# Altium footprint library PCB1.PcbLib: 12 footprints
Each footprint in its own frame and in the unit in brackets; x right, y up, seen from the top. Pads: shape width x height; smd on the part's side, far side on the other; paste and mask are expansions set on the pad; w line width, h text height; cw(c..) or ccw(c..) is an arc to the next point about the centre after c.
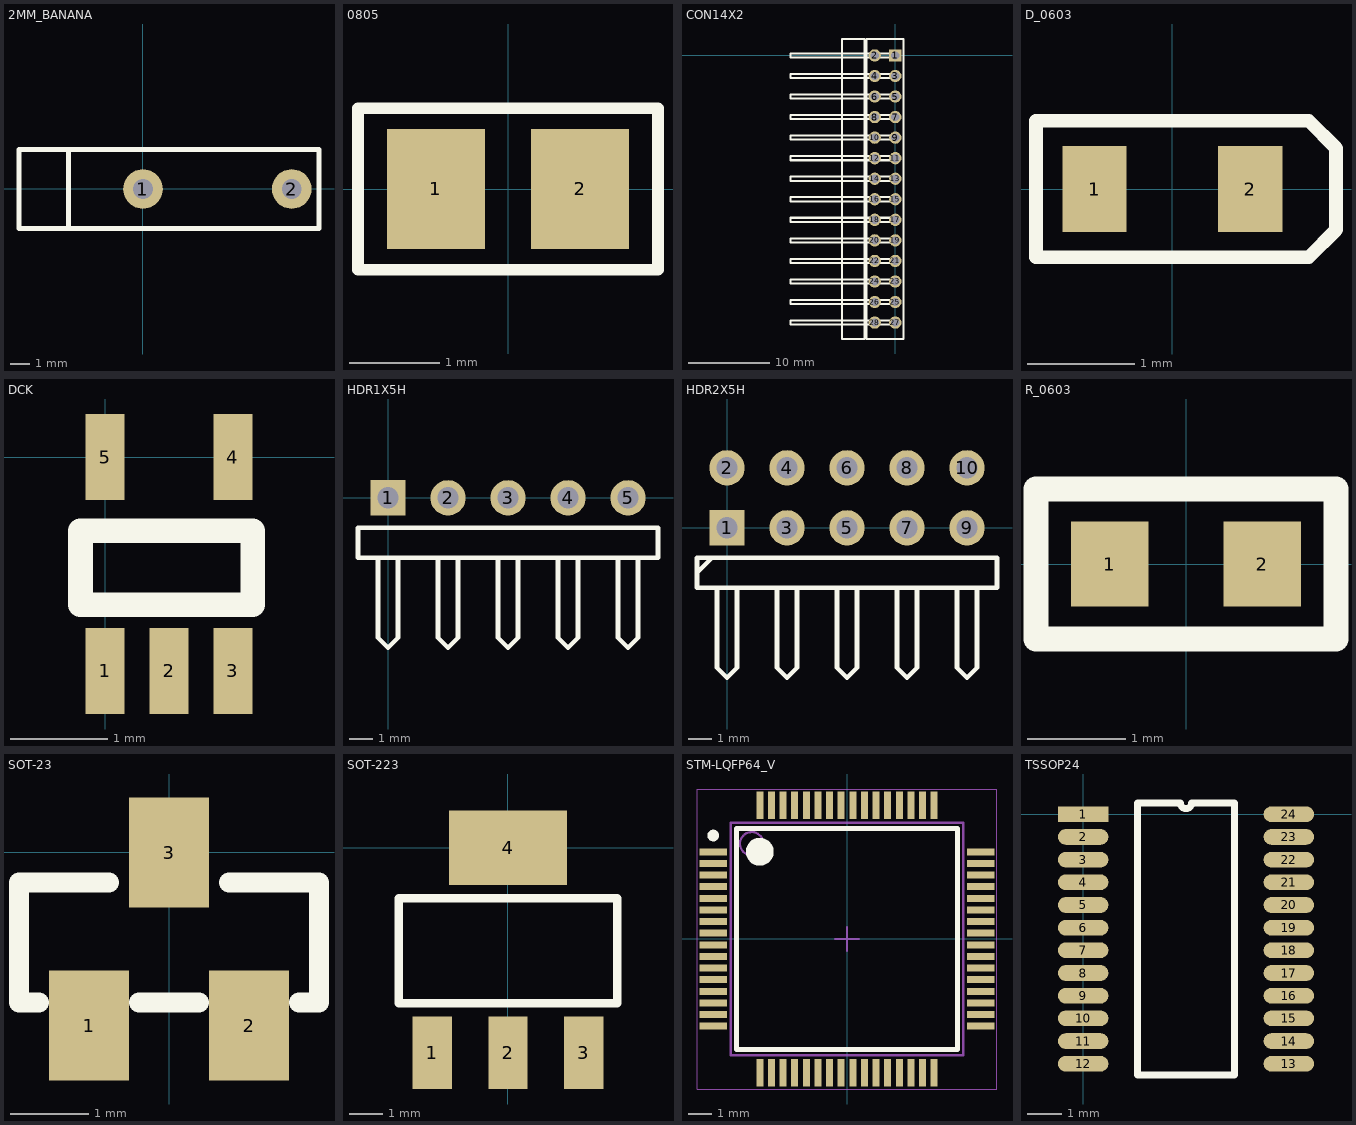
[diagram p0: the footprints below, top view; thin cyan lines are the x and y axes]

## 2MM_BANANA [mil]
pads (2):
  round 80 hole 40: 1(0,0) 2(300,0)
Top Overlay:
  lines w10: -150,-80 -150,80 ; -250,-80 -250,80 355,80 355,-80 -250,-80

## 0805 [mil]
pads (2):
  rect 42.5x52 smd: 1(-31.25,0) 2(31.25,0)
Top Overlay:
  lines w5: -65,-35 -65,35 65,35 65,-35 -65,-35

## CON14X2 [mil]
pads (28):
  rect 60x60 hole 40: 1(0,0)
  round 60 hole 40: 2(-100,0) 3(0,-100) 4(-100,-100) 5(0,-200) 6(-100,-200) 7(0,-300) 8(-100,-300) 9(0,-400) 10(-100,-400) 11(0,-500) 12(-100,-500) 13(0,-600) 14(-100,-600) 15(0,-700) 16(-100,-700) 17(0,-800) 18(-100,-800) 19(0,-900) 20(-100,-900) 21(0,-1000) 22(-100,-1000) 23(0,-1100) 24(-100,-1100) 25(0,-1200) 26(-100,-1200) 27(0,-1300) 28(-100,-1300)
Top Overlay:
  lines w10: 5,-1290 -510,-1290 -510,-1310 15,-1310 ; 5,-1190 -510,-1190 -510,-1210 15,-1210 ; 5,-1090 -510,-1090 -510,-1110 15,-1110 ; 5,-990 -510,-990 -510,-1010 15,-1010 ; 5,-890 -510,-890 -510,-910 15,-910 ; 5,-790 -510,-790 -510,-810 15,-810 ; 5,-690 -510,-690 -510,-710 15,-710 ; 5,-590 -510,-590 -510,-610 15,-610 ; 5,-490 -510,-490 -510,-510 15,-510 ; 5,-390 -510,-390 -510,-410 15,-410 ; 5,-290 -510,-290 -510,-310 15,-310 ; 5,-190 -510,-190 -510,-210 15,-210 ; 5,-90 -510,-90 -510,-110 15,-110 ; 5,10 -510,10 -510,-10 15,-10 ; -260,-1380 -260,80 -150,80 -150,40 -150,-1380 -260,-1380 ; -140,-1380 -140,80 40,80 40,-1380 -140,-1380

## D_0603 [mm]
pads (2):
  rect 0.6x0.8 smd: 1(-0.725,0) 2(0.725,0)
Top Overlay:
  lines w0.127: -1.27,-0.635 1.27,-0.635 1.524,-0.381 1.524,0.381 1.27,0.635 -1.27,0.635 -1.27,-0.635

## DCK [mil]
pads (5):
  rect 16x35 smd: 1(0,-87) 2(26,-87) 3(52,-87) 4(52,0) 5(0,0)
Top Overlay:
  lines w10: -10,-60 -10,-30 60,-30 60,-60 -10,-60

## HDR1X5H [mm]
pads (5):
  rect 1.5x1.5 hole 0.9: 1(0,0)
  round 1.5 hole 0.9: 2(2.54,0) 3(5.08,0) 4(7.62,0) 5(10.16,0)
Top Overlay:
  lines w0.2: -0.423,-2.54 -0.423,-5.927 0,-6.35 0.423,-5.927 0.423,-2.54 ; 2.117,-2.54 2.117,-5.927 2.54,-6.35 2.963,-5.927 2.963,-2.54 ; 4.657,-2.54 4.657,-5.927 5.08,-6.35 5.503,-5.927 5.503,-2.54 ; 7.197,-2.54 7.197,-5.927 7.62,-6.35 8.043,-5.927 8.043,-2.54 ; 9.737,-2.54 9.737,-5.927 10.16,-6.35 10.583,-5.927 10.583,-2.54 ; -1.27,-2.54 11.43,-2.54 11.43,-1.27 -1.27,-1.27 -1.27,-2.54

## HDR2X5H [mm]
pads (10):
  rect 1.5x1.5 hole 0.9: 1(0,0)
  round 1.5 hole 0.9: 2(0,2.54) 3(2.54,0) 4(2.54,2.54) 5(5.08,0) 6(5.08,2.54) 7(7.62,0) 8(7.62,2.54) 9(10.16,0) 10(10.16,2.54)
Top Overlay:
  lines w0.2: -1.27,-1.905 -0.635,-1.27 ; -0.423,-2.54 -0.423,-5.927 0,-6.35 0.423,-5.927 0.423,-2.54 ; 2.117,-2.54 2.117,-5.927 2.54,-6.35 2.963,-5.927 2.963,-2.54 ; 4.657,-2.54 4.657,-5.927 5.08,-6.35 5.503,-5.927 5.503,-2.54 ; 7.197,-2.54 7.197,-5.927 7.62,-6.35 8.043,-5.927 8.043,-2.54 ; 9.737,-2.54 9.737,-5.927 10.16,-6.35 10.583,-5.927 10.583,-2.54 ; -1.27,-2.54 11.43,-2.54 11.43,-1.27 -1.27,-1.27 -1.27,-2.54

## R_0603 [mil]
pads (2):
  rect 31x34 smd: 1(-30.5,0) 2(30.5,0)
Top Overlay:
  lines w10: -60,-30 60,-30 60,30 -60,30 -60,-30

## SOT-23 [mil]
pads (3):
  rect 40x55 smd: 1(-40,-86.5) 2(40,-86.5) 3(0,0)
Top Overlay:
  lines w10: -65,-75 -75,-75 -75,-15 -30,-15 ; -15,-75 15,-75 ; 30,-15 75,-15 75,-75 65,-75

## SOT-223 [mil]
pads (4):
  rect 47x86 smd: 1(-90,-244) 2(0,-244) 3(90,-244)
  rect 140x89 smd: 4(0,0)
Top Overlay:
  lines w10: -130,-185 -130,-60 130,-60 130,-185 -130,-185

## STM-LQFP64_V [mm]
pads (64):
  rect 1.2x0.3 smd: 1(-5.75,3.75) 2(-5.75,3.25) 3(-5.75,2.75) 4(-5.75,2.25) 5(-5.75,1.75) 6(-5.75,1.25) 7(-5.75,0.75) 8(-5.75,0.25) 9(-5.75,-0.25) 10(-5.75,-0.75) 11(-5.75,-1.25) 12(-5.75,-1.75) 13(-5.75,-2.25) 14(-5.75,-2.75) 15(-5.75,-3.25) 16(-5.75,-3.75) 33(5.75,-3.75) 34(5.75,-3.25) 35(5.75,-2.75) 36(5.75,-2.25) 37(5.75,-1.75) 38(5.75,-1.25) 39(5.75,-0.75) 40(5.75,-0.25) 41(5.75,0.25) 42(5.75,0.75) 43(5.75,1.25) 44(5.75,1.75) 45(5.75,2.25) 46(5.75,2.75) 47(5.75,3.25) 48(5.75,3.75)
  rect 0.3x1.2 smd: 17(-3.75,-5.75) 18(-3.25,-5.75) 19(-2.75,-5.75) 20(-2.25,-5.75) 21(-1.75,-5.75) 22(-1.25,-5.75) 23(-0.75,-5.75) 24(-0.25,-5.75) 25(0.25,-5.75) 26(0.75,-5.75) 27(1.25,-5.75) 28(1.75,-5.75) 29(2.25,-5.75) 30(2.75,-5.75) 31(3.25,-5.75) 32(3.75,-5.75) 49(3.75,5.75) 50(3.25,5.75) 51(2.75,5.75) 52(2.25,5.75) 53(1.75,5.75) 54(1.25,5.75) 55(0.75,5.75) 56(0.25,5.75) 57(-0.25,5.75) 58(-0.75,5.75) 59(-1.25,5.75) 60(-1.75,5.75) 61(-2.25,5.75) 62(-2.75,5.75) 63(-3.25,5.75) 64(-3.75,5.75)
Top Overlay:
  circle w0.6: c-3.75,3.75 r0.3
  circle w0.25: c-5.75,4.45 r0.125
  lines w0.2: -4.75,-4.75 4.75,-4.75 4.75,4.75 -4.75,4.75 -4.75,-4.75
Mechanical 13:
  circle w0.1: c-4.1,4.1 r0.5
  lines w0.1: -5,-5 5,-5 5,5 -5,5 -5,-5
Mechanical 15:
  lines w0.05: -6.45,-6.45 6.45,-6.45 6.45,6.45 -6.45,6.45 -6.45,-6.45
  lines w0.1: -0.5,0 0.5,0 ; 0,-0.5 0,0.5
3D body: height 1.6, standoff 0.05, extent -5,-5 5,5

## TSSOP24 [mm]
pads (24):
  rect 1.45x0.45 smd: 1(0,0)
  oval 1.45x0.45 smd: 2(0,-0.65) 3(0,-1.3) 4(0,-1.95) 5(0,-2.6) 6(0,-3.25) 7(0,-3.9) 8(0,-4.55) 9(0,-5.2) 10(0,-5.85) 11(0,-6.5) 12(0,-7.15) 13(5.9,-7.15) 14(5.9,-6.5) 15(5.9,-5.85) 16(5.9,-5.2) 17(5.9,-4.55) 18(5.9,-3.9) 19(5.9,-3.25) 20(5.9,-2.6) 21(5.9,-1.95) 22(5.9,-1.3) 23(5.9,-0.65) 24(5.9,0)
Top Overlay:
  lines w0.2: 1.56,-7.475 4.34,-7.475 4.34,0.325 3.113,0.325 cw(c2.95,0.325) 2.788,0.325 1.56,0.325 1.56,-7.475